# EAGLE library part WRL-5-M-S-2 (library switch)
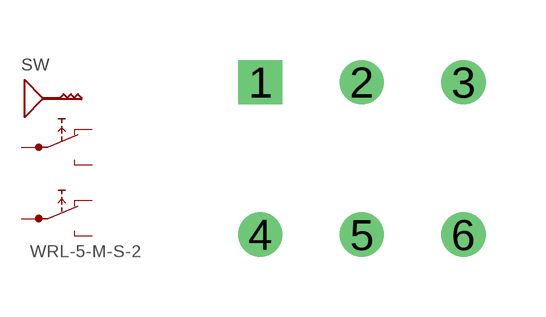
[diagram p66: symbol with the pads of WRL-5-M-S-2; footprint WRL-5-M-S-2]

Designator prefix SW

## WRL-5-M-S-2  [WRL-5-M-S-2]
1  1  pas
2  2  pas
3  3  pas
4  4  pas
5  5  pas
6  6  pas

## Footprint WRL-5-M-S-2 (pad centres in mm)
drill 0.6 square: 1 0,0
drill 0.6: 2 2.54,0; 3 5.08,0; 4 0,-3.81; 5 2.54,-3.81; 6 5.08,-3.81